# Altium footprint library footprint_lib.PcbLib: 20 footprints (part 2 of 2)
Each footprint in its own frame and in the unit in brackets; x right, y up, seen from the top. Pads: shape width x height; smd on the part's side, far side on the other; paste and mask are expansions set on the pad; w line width, h text height; cw(c..) or ccw(c..) is an arc to the next point about the centre after c.
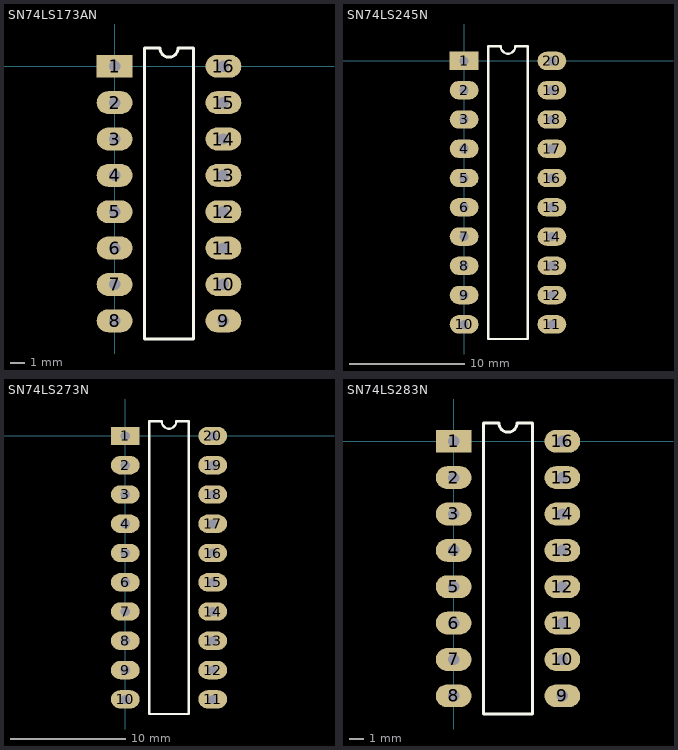
[diagram p1: the footprints below, top view; thin cyan lines are the x and y axes]

## SN74LS173AN [mm]
pads (16):
  rect 2.5x1.6 / inner rect 2.5x1.2 / far side rect 2.5x1.6 hole 0.8: 1(0,0)
  oval 2.5x1.6 / inner oval 2.5x1.2 / far side oval 2.5x1.6 hole 0.8: 2(0,-2.54) 3(0,-5.08) 4(0,-7.62) 5(0,-10.16) 6(0,-12.7) 7(0,-15.24) 8(0,-17.78) 9(7.6,-17.78) 10(7.6,-15.24) 11(7.6,-12.7) 12(7.6,-10.16) 13(7.6,-7.62) 14(7.6,-5.08) 15(7.6,-2.54) 16(7.6,0)
Top Overlay:
  lines w0.2: 2.085,-19.05 5.515,-19.05 5.515,1.27 4.435,1.27 cw(c3.8,1.27) 3.165,1.27 2.085,1.27 2.085,-19.05
3D body "CircuitWorks-DIP 16 IC.step": height 5.6, standoff -2.8, extent -0.125,-18.984 7.745,1.016

## SN74LS245N [mm]
pads (20):
  rect 2.5x1.6 hole 0.8: 1(0,0)
  oval 2.5x1.6 hole 0.8: 2(0,-2.54) 3(0,-5.08) 4(0,-7.62) 5(0,-10.16) 6(0,-12.7) 7(0,-15.24) 8(0,-17.78) 9(0,-20.32) 10(0,-22.86) 11(7.62,-22.86) 12(7.62,-20.32) 13(7.62,-17.78) 14(7.62,-15.24) 15(7.62,-12.7) 16(7.62,-10.16) 17(7.62,-7.62) 18(7.62,-5.08) 19(7.62,-2.54) 20(7.62,0)
Top Overlay:
  lines w0.2: 2.085,-24.13 5.535,-24.13 5.535,1.27 4.445,1.27 cw(c3.81,1.27) 3.175,1.27 2.085,1.27 2.085,-24.13
3D body "User Library-DIP-20P-M01 (1).step": height 4.86, standoff -2.5, extent -0.123,-23.73 7.747,0.87

## SN74LS273N [mm]
pads (20):
  rect 2.5x1.6 hole 0.8: 1(0,0)
  oval 2.5x1.6 hole 0.8: 2(0,-2.55) 3(0,-5.1) 4(0,-7.65) 5(0,-10.2) 6(0,-12.75) 7(0,-15.3) 8(0,-17.85) 9(0,-20.4) 10(0,-22.95) 11(7.62,-22.95) 12(7.62,-20.4) 13(7.62,-17.85) 14(7.62,-15.3) 15(7.62,-12.75) 16(7.62,-10.2) 17(7.62,-7.65) 18(7.62,-5.1) 19(7.62,-2.55) 20(7.62,0)
Top Overlay:
  lines w0.2: 2.085,-24.225 5.535,-24.225 5.535,1.275 4.447,1.275 cw(c3.81,1.275) 3.173,1.275 2.085,1.275 2.085,-24.225
3D body "User Library-DIP-20P-M01.step": height 4.86, standoff -2.5, extent 0,-23.73 7.87,0.87

## SN74LS283N [mm]
pads (16):
  rect 2.5x1.6 hole 0.8: 1(0,0)
  oval 2.5x1.6 hole 0.8: 2(0,-2.55) 3(0,-5.1) 4(0,-7.65) 5(0,-10.2) 6(0,-12.75) 7(0,-15.3) 8(0,-17.85) 9(7.63,-17.85) 10(7.63,-15.3) 11(7.63,-12.75) 12(7.63,-10.2) 13(7.63,-7.65) 14(7.63,-5.1) 15(7.63,-2.55) 16(7.63,0)
Top Overlay:
  lines w0.2: 2.085,-19.125 5.545,-19.125 5.545,1.275 4.452,1.275 cw(c3.815,1.275) 3.177,1.275 2.085,1.275 2.085,-19.125
3D body "CircuitWorks-DIP 16 IC.step": height 5.6, standoff -2.8, extent 0,-19.144 7.87,0.856